# Altium schematic symbol library 74xGxx.SchLib: 165 symbols (part 2 of 2)
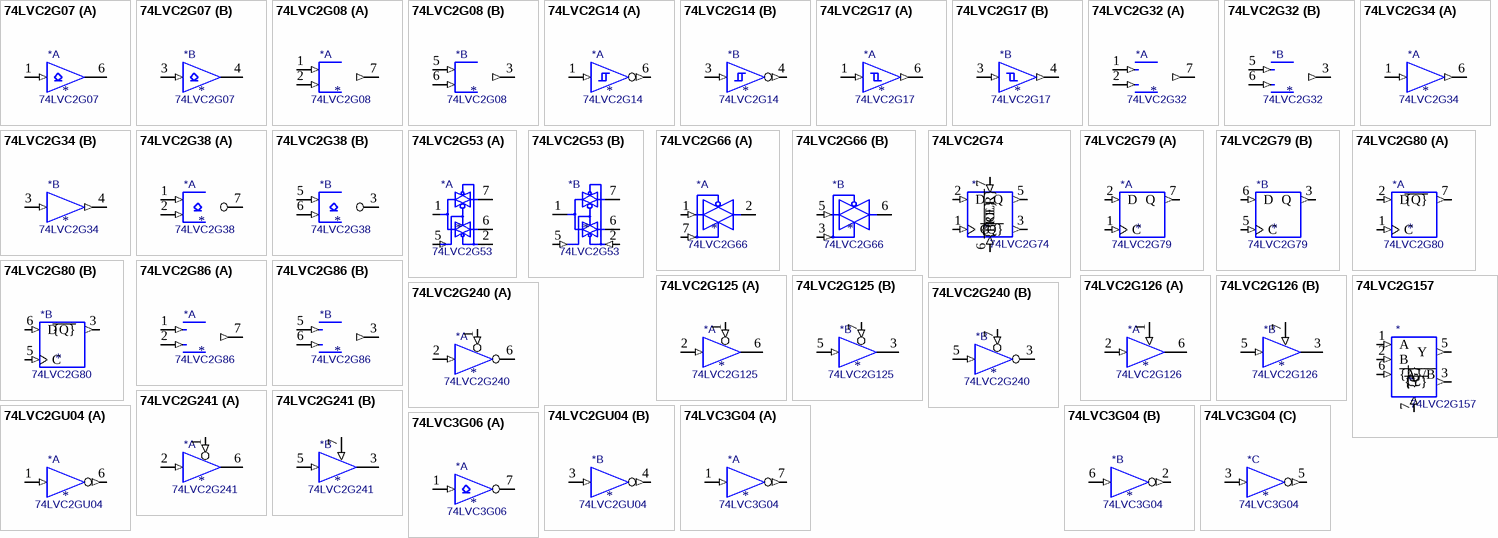
[diagram p6: symbols 74LVC2G07 to 74LVC3G06]

## 74LVC2G157
designator *  value 74LVC2G157
ki_keywords: Single Mux CMOS; ki_description: Single 2 to 1 Multiplexer, Low-Voltage CMOS; ki_fp_filters: SSOP* VSSOP*; Supplier: http://www.ti.com/lit/sg/scyt129e/scyt129e.pdf
pins: 1 A (in), 2 B (in), 3 ~{{Y}} (out), 4 GND (power) hidden, 5 Y (out), 6 ~{{A}/B} (in), 7 ~{{G}} (in), 8 VCC (power) hidden

## 74LVC2G240
designator *  value 74LVC2G240
ki_keywords: Dual Inv Buff Tri-State LVC CMOS; ki_description: Dual Inverter Buffer Tri-State, Low-Voltage CMOS; ki_fp_filters: VSSOP*; Supplier: http://www.ti.com/lit/sg/scyt129e/scyt129e.pdf
part A pins: 1 (in), 2 (in), 4 GND (power) hidden, 6 (hiz), 8 VCC (power) hidden
part B pins: 3 (hiz), 4 GND (power) hidden, 5 (in), 7 (in), 8 VCC (power) hidden

## 74LVC2G241
designator *  value 74LVC2G241
ki_keywords: Dual Buff Tri-State LVC CMOS; ki_description: Dual Buffer Tri-State, Low-Voltage CMOS; ki_fp_filters: VSSOP*; Supplier: http://www.ti.com/lit/sg/scyt129e/scyt129e.pdf
part A pins: 1 (in), 2 (in), 4 GND (power) hidden, 6 (hiz), 8 VCC (power) hidden
part B pins: 3 (hiz), 4 GND (power) hidden, 5 (in), 7 (in), 8 VCC (power) hidden

## 74LVC2GU04
designator *  value 74LVC2GU04
ki_keywords: Dual Gate NOT LVC CMOS; ki_description: 74LVC2G04, Dual NOT Gate, Low-Voltage CMOS; ki_fp_filters: SG-* SOT*; Supplier: http://www.ti.com/lit/sg/scyt129e/scyt129e.pdf
part A pins: 1 (in), 2 GND (power) hidden, 5 VCC (power) hidden, 6 (out)
part B pins: 2 GND (power) hidden, 3 (in), 4 (out), 5 VCC (power) hidden

## 74LVC3G04
designator *  value 74LVC3G04
ki_keywords: Triple Gate NOT LVC CMOS; ki_description: Triple NOT Gate, Low-Voltage CMOS; ki_fp_filters: SSOP* VSSOP*; Supplier: http://www.ti.com/lit/sg/scyt129e/scyt129e.pdf
part A pins: 1 (in), 4 GND (power) hidden, 7 (out), 8 VCC (power) hidden
part B pins: 2 (out), 4 GND (power) hidden, 6 (in), 8 VCC (power) hidden
part C pins: 3 (in), 4 GND (power) hidden, 5 (out), 8 VCC (power) hidden

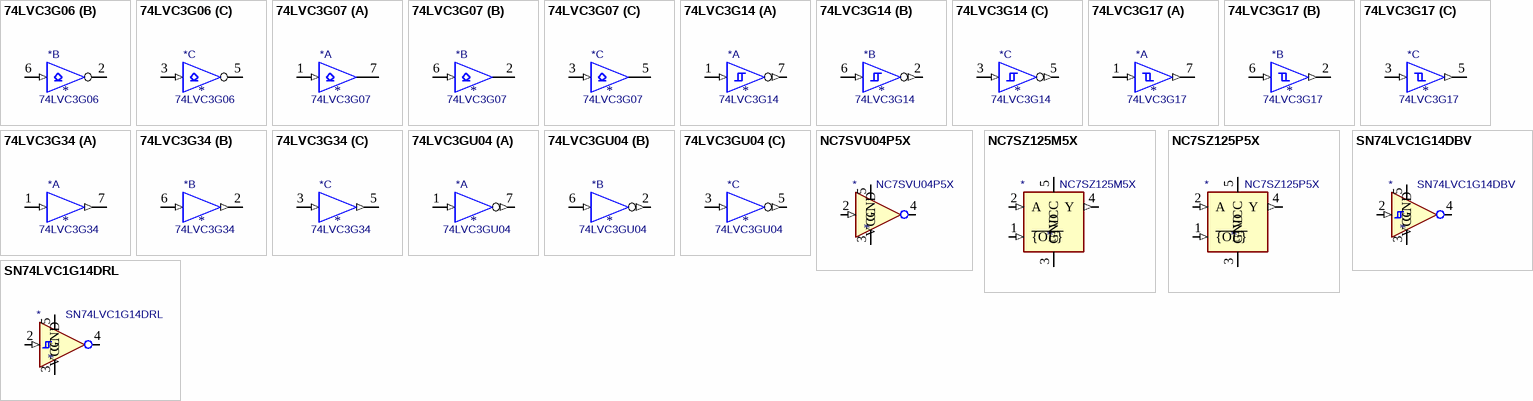
[diagram p5: symbols 74LVC3G06 to SN74LVC1G14DRL]

## 74LVC3G06
designator *  value 74LVC3G06
ki_keywords: Triple Gate NOT Open Drain LVC CMOS; ki_description: Triple NOT Gate w/ Open Drain, Low-Voltage CMOS; ki_fp_filters: SSOP* VSSOP*; Supplier: http://www.ti.com/lit/sg/scyt129e/scyt129e.pdf
part A pins: 1 (in), 4 GND (power) hidden, 7 (oc), 8 VCC (power) hidden
part B pins: 2 (oc), 4 GND (power) hidden, 6 (in), 8 VCC (power) hidden
part C pins: 3 (in), 4 GND (power) hidden, 5 (oc), 8 VCC (power) hidden

## 74LVC3G07
designator *  value 74LVC3G07
ki_keywords: Triple Buff Open Drain LVC CMOS; ki_description: Triple Buffer w/ Open Drain, Low-Voltage CMOS; ki_fp_filters: SSOP* VSSOP*; Supplier: http://www.ti.com/lit/sg/scyt129e/scyt129e.pdf
part A pins: 1 (in), 4 GND (power) hidden, 7 (oc), 8 VCC (power) hidden
part B pins: 2 (oc), 4 GND (power) hidden, 6 (in), 8 VCC (power) hidden
part C pins: 3 (in), 4 GND (power) hidden, 5 (oc), 8 VCC (power) hidden

## 74LVC3G14
designator *  value 74LVC3G14
ki_keywords: Triple NOT Schmitt LVC CMOS; ki_description: Triple NOT Gate Schmitt, Low-Voltage CMOS; ki_fp_filters: SSOP* VSSOP*; Supplier: https://www.ti.com/lit/ds/symlink/sn74lvc3g14.pdf
part A pins: 1 (in), 4 GND (power) hidden, 7 (out), 8 VCC (power) hidden
part B pins: 2 (out), 4 GND (power) hidden, 6 (in), 8 VCC (power) hidden
part C pins: 3 (in), 4 GND (power) hidden, 5 (out), 8 VCC (power) hidden

## 74LVC3G17
designator *  value 74LVC3G17
ki_keywords: Triple Buf Schmitt LVC CMOS; ki_description: Triple Buffer Schmitt, Low-Voltage CMOS; ki_fp_filters: SSOP* VSSOP*; Supplier: http://www.ti.com/lit/sg/scyt129e/scyt129e.pdf
part A pins: 1 (in), 4 GND (power) hidden, 7 (out), 8 VCC (power) hidden
part B pins: 2 (out), 4 GND (power) hidden, 6 (in), 8 VCC (power) hidden
part C pins: 3 (in), 4 GND (power) hidden, 5 (out), 8 VCC (power) hidden

## 74LVC3G34
designator *  value 74LVC3G34
ki_keywords: Triple Buf LVC CMOS; ki_description: Triple Buffer, Low-Voltage CMOS; ki_fp_filters: SSOP* VSSOP*; Supplier: http://www.ti.com/lit/sg/scyt129e/scyt129e.pdf
part A pins: 1 (in), 4 GND (power) hidden, 7 (out), 8 VCC (power) hidden
part B pins: 2 (out), 4 GND (power) hidden, 6 (in), 8 VCC (power) hidden
part C pins: 3 (in), 4 GND (power) hidden, 5 (out), 8 VCC (power) hidden

## 74LVC3GU04
designator *  value 74LVC3GU04
ki_keywords: Triple Gate NOT LVC CMOS; ki_description: 74LVC3G04, Triple NOT Gate, Low-Voltage CMOS; ki_fp_filters: SSOP* VSSOP*; Supplier: http://www.ti.com/lit/sg/scyt129e/scyt129e.pdf
part A pins: 1 (in), 4 GND (power) hidden, 7 (out), 8 VCC (power) hidden
part B pins: 2 (out), 4 GND (power) hidden, 6 (in), 8 VCC (power) hidden
part C pins: 3 (in), 4 GND (power) hidden, 5 (out), 8 VCC (power) hidden

## NC7SVU04P5X
designator *  value NC7SVU04P5X
ki_keywords: inverter; ki_description: High-Speed Logic Inverter, SOT-353; ki_fp_filters: SOT*353*SC*70*; Footprint: Package_TO_SOT_SMD:SOT-353_SC-70-5; Supplier: https://www.onsemi.com/pub/Collateral/NC7SVU04-D.pdf
footprint SOT-353_SC-70-5
pins: 1 NC (in) hidden, 2 (in), 3 GND (power), 4 (out), 5 VCC (power)

## NC7SZ125M5X
designator *  value NC7SZ125M5X
ki_keywords: buffer three-state; ki_description: TinyLogic UHS Buffer with Three-State Output, SOT-23-5; ki_fp_filters: SOT?23*; Footprint: Package_TO_SOT_SMD:SOT-23-5; Supplier: https://www.onsemi.com/pdf/datasheet/nc7sz125-d.pdf
footprint SOT-23-5
pins: 1 ~{{OE}} (in), 2 A (in), 3 GND (power), 4 Y (out), 5 VCC (power)

## NC7SZ125P5X
designator *  value NC7SZ125P5X
ki_keywords: buffer three-state; ki_description: TinyLogic UHS Buffer with Three-State Output, SOT-353; ki_fp_filters: SOT*353*; Footprint: Package_TO_SOT_SMD:SOT-353_SC-70-5; Supplier: https://www.onsemi.com/pdf/datasheet/nc7sz125-d.pdf
footprint SOT-353_SC-70-5
pins: 1 ~{{OE}} (in), 2 A (in), 3 GND (power), 4 Y (out), 5 VCC (power)

## SN74LVC1G14DBV
designator *  value SN74LVC1G14DBV
ki_keywords: Inverter Schmitt Trigger; ki_description: Single Schmitt-Trigger Inverter, SOT-23; ki_fp_filters: SOT?23*; Footprint: Package_TO_SOT_SMD:SOT-23-5; Supplier: http://www.ti.com/lit/ds/symlink/sn74lvc1g14.pdf
footprint SOT-23-5
pins: 1 NC (in) hidden, 2 (in), 3 GND (power), 4 (out), 5 VCC (power)

## SN74LVC1G14DRL
designator *  value SN74LVC1G14DRL
ki_keywords: Inverter Schmitt Trigger; ki_description: Single Schmitt-Trigger Inverter, SOT-553; ki_fp_filters: SOT?553*; Footprint: Package_TO_SOT_SMD:SOT-553; Supplier: http://www.ti.com/lit/ds/symlink/sn74lvc1g14.pdf
footprint SOT-553
pins: 1 NC (in) hidden, 2 (in), 3 GND (power), 4 (out), 5 VCC (power)